# Altium footprint library UDFN-6 (2x2).PcbLib: 1 footprints
Each footprint in its own frame and in the unit in brackets; x right, y up, seen from the top. Pads: shape width x height; smd on the part's side, far side on the other; paste and mask are expansions set on the pad; w line width, h text height; cw(c..) or ccw(c..) is an arc to the next point about the centre after c.
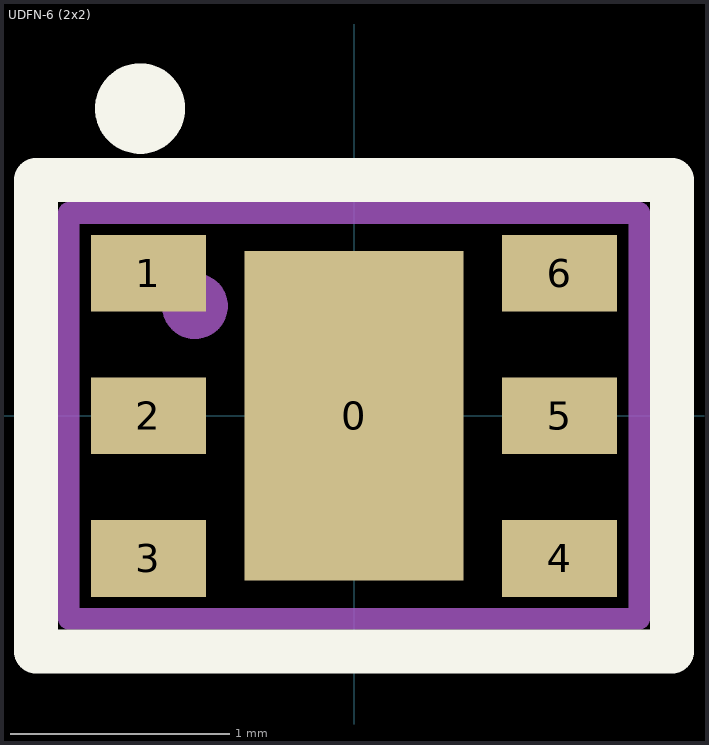
[diagram p0: the footprint, top view; thin cyan lines are the x and y axes]

## UDFN-6 (2x2) [mm] "UDFN-6 (2x2)"
pads (7):
  rect 1x1.5 smd paste+0 mask+0.05: 0(0,0)
  rect 0.525x0.35 smd paste+0 mask+0.05: 1(-0.937,0.65) 2(-0.937,0) 3(-0.937,-0.65) 4(0.937,-0.65) 5(0.937,0) 6(0.937,0.65)
Top Overlay:
  circle w0.3: c-0.975,1.4 r0.056
  lines w0.2: -1.45,-1.075 1.45,-1.075 1.45,1.075 -1.45,1.075 -1.45,-1.075
Top Assembly:
  circle w0.2: c-0.725,0.5 r0.05
  lines w0.1: -1.3,-0.925 1.3,-0.925 1.3,0.925 -1.3,0.925 -1.3,-0.925
  text "'.Designator'" at -0.925,-0.45 h0.7
3D body "User Library-UDFN6.step": height 0.65, standoff 0, extent -1,-1 1,1